# EAGLE library part SN74LS245NE4 (library ICs)
Bus Transceivers Octal bus Transceiver Source: Datasheet <http://www.ti.com/lit/ds/symlink/sn74ls245.pdf>
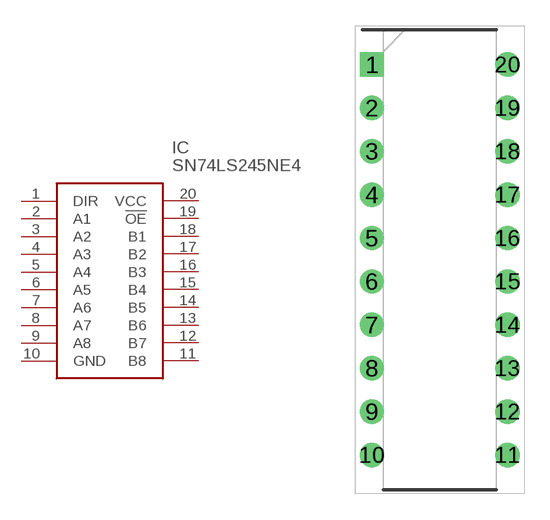
[diagram p10: symbol with the pads of DIP794W53P254L2540H508Q20N; footprint DIP794W53P254L2540H508Q20N]

Designator prefix IC

## SN74LS245NE4 (DESCRIPTION: Bus Transceivers Octal bus Transceiver; HEIGHT: 5.08mm; MANUFACTURER_NAME: Texas Instruments; MANUFACTURER_PART_NUMBER: SN74LS245NE4; MOUSER_PART_NUMBER: 595-SN74LS245NE4; MOUSER_PRICE-STOCK: https://www.mouser.com/Search/Refine.aspx?Keyword=595-SN74LS245NE4)  [DIP794W53P254L2540H508Q20N]
1  DIR
2  A1
3  A2
4  A3
5  A4
6  A5
7  A6
8  A7
9  A8
10  GND
11  B8
12  B7
13  B6
14  B5
15  B4
16  B3
17  B2
18  B1
19  !OE
20  VCC

## Footprint DIP794W53P254L2540H508Q20N (pad centres in mm)
N (R-PDIP-T20)
drill 0.8 pad 1.422 square: 1 -3.97,11.43
drill 0.8 pad 1.422: 2 -3.97,8.89; 3 -3.97,6.35; 4 -3.97,3.81; 5 -3.97,1.27; 6 -3.97,-1.27; 7 -3.97,-3.81; 8 -3.97,-6.35; 9 -3.97,-8.89; 10 -3.97,-11.43; 11 3.97,-11.43; 12 3.97,-8.89; 13 3.97,-6.35; 14 3.97,-3.81; 15 3.97,-1.27; 16 3.97,1.27; 17 3.97,3.81; 18 3.97,6.35; 19 3.97,8.89; 20 3.97,11.43